# EAGLE library part LM4881 (library TI)
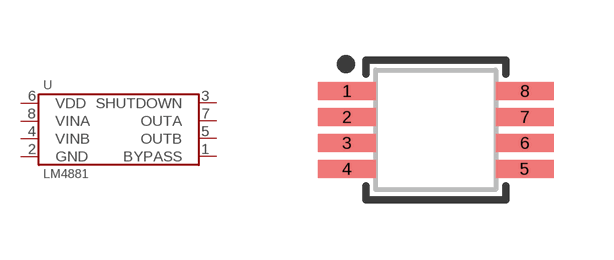
[diagram p27: symbol with the pads of MSOP-8; footprint MSOP-8]

Designator prefix U

## LM4881MM-NOPB  [MSOP-8]
1  BYPASS
2  GND
3  SHUTDOWN
4  VINB
5  OUTB
6  VDD
7  OUTA
8  VINA

## Footprint MSOP-8 (pad centres in mm)
smd 1.45 x 0.45: 1 -2.225,0.975; 2 -2.225,0.325; 3 -2.225,-0.325; 4 -2.225,-0.975; 5 2.225,-0.975; 6 2.225,-0.325; 7 2.225,0.325; 8 2.225,0.975